# Altium schematic symbol library IC_ST_Microelectronics_L7805CDT-TR_eec.SchLib: 1 symbol
Pins are listed as number, name and electrical type; pins without a type are passive.

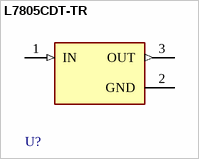
[diagram p0: symbol L7805CDT-TR]

## L7805CDT-TR
designator U?  (value not drawn)
pins: 1 IN (in), 2 GND (power), 3 OUT (out)